# EAGLE library part PCM1793 (library burr-brown)
AUDIO STEREO DIGITAL-TO-ANALOG CONVERTER 24-BIT, 192-kHz SAMPLING, ADVANCED SEGMENT Source: http://focus.ti.com/lit/ds/symlink/pcm1793.pdf
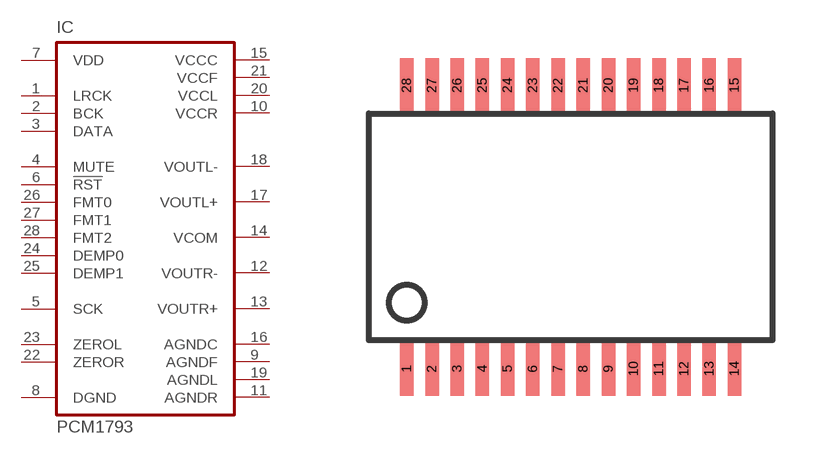
[diagram p103: symbol with the pads of SSOP28BU; footprint SSOP28BU]

Designator prefix IC

## PCM1793 (MANUFACTURER: TEXAS INSTRUMENT CONNECTORS; MPN: PCM1793DBR)  [SSOP28BU]
1  LRCK  in
2  BCK  in
3  DATA  in
4  MUTE  in
5  SCK  in
6  !RST  in
7  VDD  pwr
8  DGND  pwr
9  AGNDF  pwr
10  VCCR  pwr
11  AGNDR  pwr
12  VOUTR-  out
13  VOUTR+  out
14  VCOM  pas
15  VCCC  pwr
16  AGNDC  pwr
17  VOUTL+  out
18  VOUTL-  out
19  AGNDL  pwr
20  VCCL  pwr
21  VCCF  pwr
22  ZEROR  out
23  ZEROL  out
24  DEMP0  in
25  DEMP1  in
26  FMT0  in
27  FMT1  in
28  FMT2  in

## Footprint SSOP28BU (pad centres in mm)
Small Shrink Outline Package
smd 0.348 x 1.397: 1 -4.225,-3.656; 2 -3.575,-3.656; 3 -2.925,-3.656; 4 -2.275,-3.656; 5 -1.625,-3.656; 6 -0.975,-3.656; 7 -0.325,-3.656; 8 0.325,-3.656; 9 0.975,-3.656; 10 1.625,-3.656; 11 2.275,-3.656; 12 2.925,-3.656; 13 3.575,-3.656; 14 4.225,-3.656; 15 4.225,3.656; 16 3.575,3.656; 17 2.925,3.656; 18 2.275,3.656; 19 1.625,3.656; 20 0.975,3.656; 21 0.325,3.656; 22 -0.325,3.656; 23 -0.975,3.656; 24 -1.625,3.656; 25 -2.275,3.656; 26 -2.925,3.656; 27 -3.575,3.656; 28 -4.225,3.656